# Altium footprint library vqfn_20_p50_450x350x100_l40x24_t305x205.PcbLib: 1 footprints
Each footprint in its own frame and in the unit in brackets; x right, y up, seen from the top. Pads: shape width x height; smd on the part's side, far side on the other; paste and mask are expansions set on the pad; w line width, h text height; cw(c..) or ccw(c..) is an arc to the next point about the centre after c.
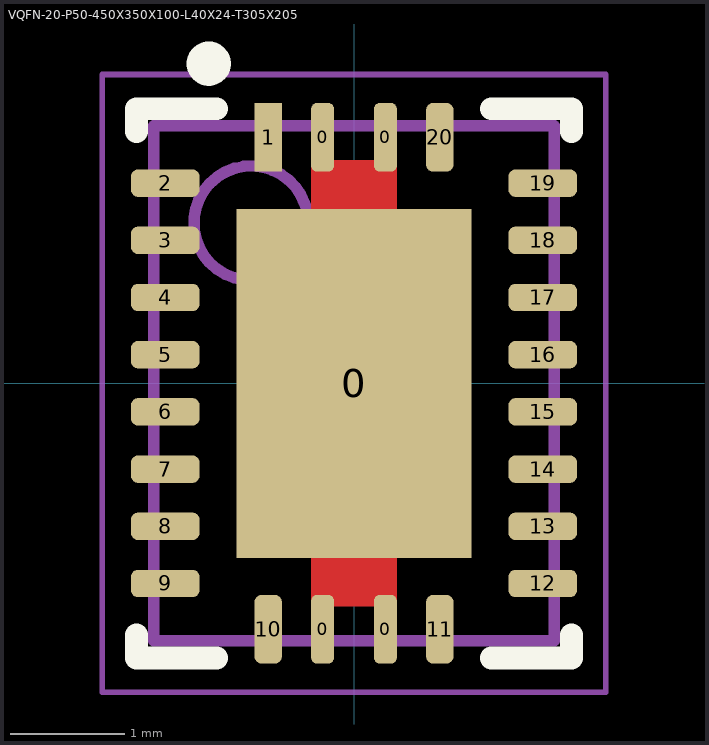
[diagram p0: the footprint, top view; thin cyan lines are the x and y axes]

## VQFN-20-P50-450X350X100-L40X24-T305X205 [mm] "VQFN, 20-Leads, Body 3,50x2,50mm, Pitch 0,50mm, Thermal Pad 3,05x2,05mm, IPC Medium Density"
height 1
pads (25):
  rrect50% 0.2x0.6 smd: 0(-0.275,-2.15) 0(-0.275,2.15) 0(0.275,-2.15) 0(0.275,2.15)
  rect 2.05x3.05 smd: 0(0,0)
  rect 0.24x0.6 smd: 1(-0.75,2.15)
  rrect50% 0.6x0.24 smd: 2(-1.65,1.75) 3(-1.65,1.25) 4(-1.65,0.75) 5(-1.65,0.25) 6(-1.65,-0.25) 7(-1.65,-0.75) 8(-1.65,-1.25) 9(-1.65,-1.75) 12(1.65,-1.75) 13(1.65,-1.25) 14(1.65,-0.75) 15(1.65,-0.25) 16(1.65,0.25) 17(1.65,0.75) 18(1.65,1.25) 19(1.65,1.75)
  rrect50% 0.24x0.6 smd: 10(-0.75,-2.15) 11(0.75,-2.15) 20(0.75,2.15)
Top Layer:
  rectangle: -0.375,1.5 0.375,1.95
  rectangle: -0.375,-1.95 0.375,-1.5
Top Overlay:
  circle w0.25: c-1.27,2.794 r0.068
  lines w0.2: -1.9,-2.2 -1.9,-2.4 -1.2,-2.4 ; -1.9,2.2 -1.9,2.4 -1.2,2.4 ; 1.2,-2.4 1.9,-2.4 1.9,-2.2 ; 1.2,2.4 1.9,2.4 1.9,2.2
Top Comment:
  text ".Comment" at 1.1,3.3 h1.2
Top Designator:
  text ".Designator" at -0.4,3.3 h1.2
Top Component Outline:
  circle w0.1: c-0.9,1.4 r0.5
  lines w0.1: -1.75,-2.25 -1.75,2.25 1.75,2.25 1.75,-2.25 -1.75,-2.25
Top Courtyard (Mech15):
  lines w0.05: -2.2,-2.7 2.2,-2.7 2.2,2.7 -2.2,2.7 -2.2,-2.7
  lines w0.1: -0.5,0 0.5,0 ; 0,-0.5 0,0.5
3D body "VQFN-20.STEP": height 0.99, standoff -0.01, extent -1.75,-2.25 1.75,2.25